# Altium footprint library Altium_Resistor_Array.PcbLib: 2 footprints
Each footprint in its own frame and in the unit in brackets; x right, y up, seen from the top. Pads: shape width x height; smd on the part's side, far side on the other; paste and mask are expansions set on the pad; w line width, h text height; cw(c..) or ccw(c..) is an arc to the next point about the centre after c.
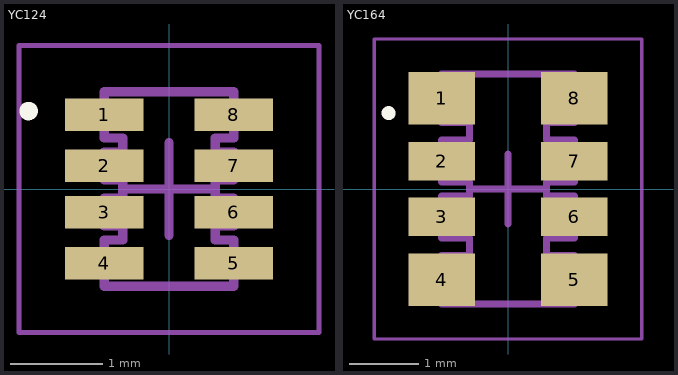
[diagram p0: the footprints below, top view; thin cyan lines are the x and y axes]

## YC124 [mm] "Chip Array, ConvexS, 8-Leads, Pitch 0.50mm,  Body 2.00x1.00mm,  IPC Low Density"
height 0.5
pads (8):
  rect 0.85x0.35 smd: 1(-0.7,0.8) 2(-0.7,0.25) 3(-0.7,-0.25) 4(-0.7,-0.8) 5(0.7,-0.8) 6(0.7,-0.25) 7(0.7,0.25) 8(0.7,0.8)
Top Overlay:
  circle w0.1: c-1.516,0.842 r0.05
Top Courtyard:
  lines w0.05: -1.62,-1.55 1.62,-1.55 1.62,1.55 -1.62,1.55 -1.62,-1.55
  lines w0.1: -0.5,0 0.5,0 ; 0,-0.5 0,0.5
Top Component Outline:
  lines w0.1: -0.7,-1.05 0.7,-1.05 0.7,-0.55 0.5,-0.55 0.5,-0.4 0.7,-0.4 0.7,-0.1 0.5,-0.1 0.5,0.1 0.7,0.1 0.7,0.4 0.5,0.4 0.5,0.55 0.7,0.55 0.7,1.05 -0.7,1.05 -0.7,0.55 -0.5,0.55 -0.5,0.4 -0.7,0.4 -0.7,0.1 -0.5,0.1 -0.5,-0.1 -0.7,-0.1 -0.7,-0.4 -0.5,-0.4 -0.5,-0.55 -0.7,-0.55 -0.7,-1.05
Top Designator:
  text ".Designator" at -5.998,-0.4 h1.2
3D body "CAC-50P200X100-8M.step": height 0.5, standoff 0, extent -0.6,-1.05 0.6,1.05

## YC164 [mm] "Chip Array, ConvexS, 8-Leads, Pitch 0.80mm,  Body 3.20x1.60mm,  IPC Low Density"
height 0.7
pads (8):
  rect 0.95x0.75 smd: 1(-0.95,1.3) 4(-0.95,-1.3) 5(0.95,-1.3) 8(0.95,1.3)
  rect 0.95x0.55 smd: 2(-0.95,0.4) 3(-0.95,-0.4) 6(0.95,-0.4) 7(0.95,0.4)
Top Overlay:
  circle w0.1: c-1.712,1.088 r0.05
Top Courtyard:
  lines w0.05: -1.92,-2.15 -1.92,2.15 ; -1.92,-2.15 -1.92,2.15 ; -1.92,-2.15 1.92,-2.15 ; -1.92,-2.15 1.92,-2.15 ; -1.92,2.15 1.92,2.15 ; -1.92,2.15 1.92,2.15 ; 1.92,-2.15 1.92,2.15 ; 1.92,-2.15 1.92,2.15
  lines w0.1: -0.5,0 0.5,0 ; 0,-0.5 0,0.5
Top Component Outline:
  lines w0.1: -0.95,-1.65 0.95,-1.65 0.95,-0.95 0.55,-0.95 0.55,-0.7 0.95,-0.7 0.95,-0.1 0.55,-0.1 0.55,0.1 0.95,0.1 0.95,0.7 0.55,0.7 0.55,0.95 0.95,0.95 0.95,1.65 -0.95,1.65 -0.95,0.95 -0.55,0.95 -0.55,0.7 -0.95,0.7 -0.95,0.1 -0.55,0.1 -0.55,-0.1 -0.95,-0.1 -0.95,-0.7 -0.55,-0.7 -0.55,-0.95 -0.95,-0.95 -0.95,-1.65
Top Designator:
  text ".Designator" at -5.998,-0.4 h1.2
Mechanical 15:
  lines w0.1: -0.5,0 0.5,0 ; 0,-0.5 0,0.5
3D body "CAC-80P320X160-8M.step": height 0.7, standoff 0, extent -0.9,-1.65 0.9,1.65